# EAGLE library part AD7814 (library analog-devices)
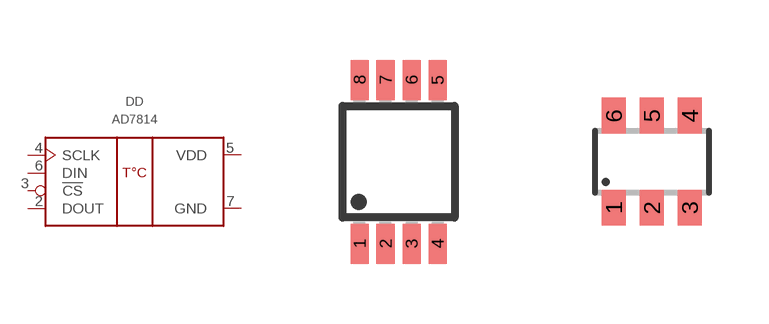
[diagram p8: symbol with the pads of MSOP8; footprints MSOP8, SOT23-6]

Designator prefix DD

## AD7814ARM  [MSOP8]
2  DOUT  out
3  !CS  in
4  SCLK  in
5  VDD  pwr
6  DIN  in
7  GND  pwr

## AD7814ART  [SOT23-6]
1  GND  pwr
2  DIN  in
3  VDD  pwr
4  SCLK  in
5  !CS  in
6  DOUT  out

## Footprint MSOP8 (pad centres in mm)
Micro Small Outline Package Grid .65mm
smd 0.45 x 1: 1 -0.975,-2.05; 2 -0.325,-2.05; 3 0.325,-2.05; 4 0.975,-2.05; 5 0.975,2.05; 6 0.325,2.05; 7 -0.325,2.05; 8 -0.975,2.05

## Footprint SOT23-6 (pad centres in mm)
Small Outline Transistor 6 lead
smd 0.6 x 0.9: 1 -0.95,-1.15; 2 0,-1.15; 3 0.95,-1.15; 4 0.95,1.15; 5 0,1.15; 6 -0.95,1.15